# EAGLE library part LTC4425 (library OSSI)
LTC4425 Linear SuperCap Charger With Current-Limited Ideal Diode and V/I Monitor
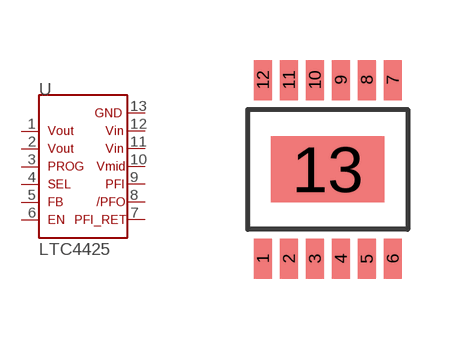
[diagram p36: symbol with the pads of MSOP-12-MSE; footprint MSOP-12-MSE]

Designator prefix U

## LTC4425  [MSOP-12-MSE]
1  P$1  pwr
2  P$2  pwr
3  P$3  in
4  P$4  in
5  P$5  in
6  P$6  in
7  P$7  in
8  P$8  out
9  P$9  in
10  P$10  pwr
11  P$11  pwr
12  P$12  pwr
13  P$13  pwr

## Footprint MSOP-12-MSE (pad centres in mm)
smd 0.45 x 1: 1 -1.625,-2.233; 2 -0.975,-2.233; 3 -0.325,-2.233; 4 0.325,-2.233; 5 0.975,-2.233; 6 1.625,-2.233; 7 1.625,2.233; 8 0.975,2.233; 9 0.325,2.233; 10 -0.325,2.233; 11 -0.975,2.233; 12 -1.625,2.233
smd 2.845 x 1.65: 13 0,0